# EAGLE library part 0201AAAG06A (library Deegou-Connectors)
SMD NANO SIM CARD HOLDER
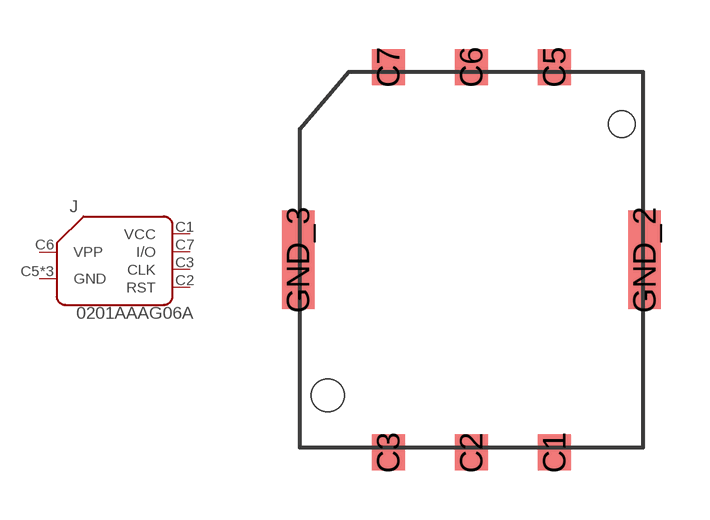
[diagram p1: symbol with the pads of NANO_SIM_CARD_HOLDER; footprint NANO_SIM_CARD_HOLDER]

Designator prefix J

## 0201AAAG06A_NANO (MFR: Generic; MFR-PN: 0201AAAG06A)  [NANO_SIM_CARD_HOLDER]
C1  VCC  pwr
C2  RST  in
C3  CLK  in
C5  GND  pwr
C6  VPP  in
C7  I/O
GND_2  GND  pwr
GND_3  GND  pwr

## Footprint NANO_SIM_CARD_HOLDER (pad centres in mm)
smd 1 x 1.1: C1 2.54,-5.9; C2 0,-5.9; C3 -2.54,-5.9; C5 2.54,5.9; C6 0,5.9; C7 -2.54,5.9
smd 1 x 3: GND_2 5.3,0; GND_3 -5.3,0
hole 1 at -4.4,-4.15
hole 0.8 at 4.6,4.15